# Altium schematic symbol library maxi.SchLib: 1 symbol
Pins are listed as number, name and electrical type; pins without a type are passive.

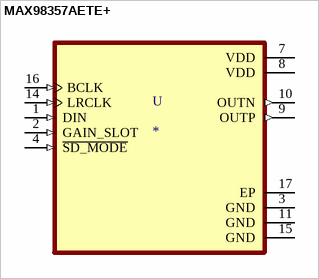
[diagram p0: symbol MAX98357AETE+]

## MAX98357AETE+
designator U
Amplifier IC 1-Channel _Mono_ Class D 16-TQFN _3x3_; MP: MAX98357AETE+; MF: Maxim Integrated; Price: None; Value: *; Package: TQFN-16 Maxim; SnapEDA_Link: https://www.snapeda.com/parts/MAX98357AETE%2B/Maxim%20Integrated/view-part/229145/?ref=snap; Availability: Unavailable
footprint QFN50P300X300X80-17N
pins: 1 DIN (in), 2 GAIN_SLOT (in), 3 GND (power), 4 ~{SD_MODE} (in), 7 VDD (power), 8 VDD (power), 9 OUTP (out), 10 OUTN (out), 11 GND (power), 14 LRCLK (in), 15 GND (power), 16 BCLK (in), 17 EP (power)